# EAGLE library part M211-T44 (library amd-mach)
AMD MACH SERIES
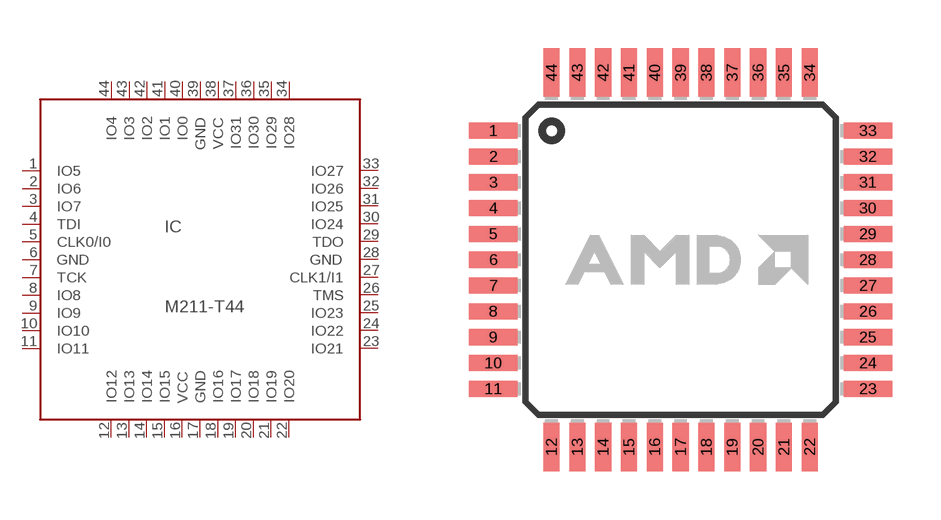
[diagram p26: symbol with the pads of TQFP44; footprint TQFP44]

Designator prefix IC

## M211-T44 (OC_FARNELL: unknown; OC_NEWARK: unknown)  [TQFP44]
1  IO5
2  IO6
3  IO7
4  TDI  in
5  CLK0/I0  in
6  GND  pwr
7  TCK  in
8  IO8
9  IO9
10  IO10
11  IO11
12  IO12
13  IO13
14  IO14
15  IO15
16  VCC  pwr
17  GND  pwr
18  IO16
19  IO17
20  IO18
21  IO19
22  IO20
23  IO21
24  IO22
25  IO23
26  TMS  in
27  CLK1/I1  in
28  GND  pwr
29  TDO  out
30  IO24
31  IO25
32  IO26
33  IO27
34  IO28
35  IO29
36  IO30
37  IO31
38  VCC  pwr
39  GND  pwr
40  IO0
41  IO1
42  IO2
43  IO3
44  IO4

## Footprint TQFP44 (pad centres in mm)
THIN QUAD FLAT PACK
smd 1.5 x 0.5: 1 -5.8,4; 2 -5.8,3.2; 3 -5.8,2.4; 4 -5.8,1.6; 5 -5.8,0.8; 6 -5.8,0; 7 -5.8,-0.8; 8 -5.8,-1.6; 9 -5.8,-2.4; 10 -5.8,-3.2; 11 -5.8,-4; 23 5.8,-4; 24 5.8,-3.2; 25 5.8,-2.4; 26 5.8,-1.6; 27 5.8,-0.8; 28 5.8,0; 29 5.8,0.8; 30 5.8,1.6; 31 5.8,2.4; 32 5.8,3.2; 33 5.8,4
smd 0.5 x 1.5: 12 -4,-5.8; 13 -3.2,-5.8; 14 -2.4,-5.8; 15 -1.6,-5.8; 16 -0.8,-5.8; 17 0,-5.8; 18 0.8,-5.8; 19 1.6,-5.8; 20 2.4,-5.8; 21 3.2,-5.8; 22 4,-5.8; 34 4,5.8; 35 3.2,5.8; 36 2.4,5.8; 37 1.6,5.8; 38 0.8,5.8; 39 0,5.8; 40 -0.8,5.8; 41 -1.6,5.8; 42 -2.4,5.8; 43 -3.2,5.8; 44 -4,5.8